# Altium schematic symbol library LMV431ACM5.SchLib: 1 symbol
Pins are listed as number, name and electrical type; pins without a type are passive.

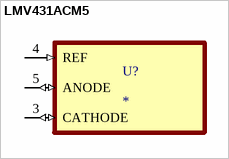
[diagram p0: symbol LMV431ACM5]

## LMV431ACM5
designator U?
1%, low-voltage (1.24-V) adjustable precision shunt regulator 5-SOT-23 0 to 70; MP: LMV431ACM5; MF: Texas Instruments; Price: None; Package: SOT-23-5 Texas Instruments; Purchase-URL: https://pricing.snapeda.com/search/part/LMV431ACM5/?ref=eda; Availability: Warning; SnapEDA_Link: https://www.snapeda.com/parts/LMV431ACM5/Texas%20Instruments/view-part/17613/?ref=snap; Check_prices: https://www.snapeda.com/parts/LMV431ACM5/Texas%20Instruments/view-part/17613/?ref=eda; Value: *
footprint SOT95P280X145-5N
pins: 3 CATHODE (io), 4 REF (in), 5 ANODE (io)